# EAGLE library part LM61440*-Q1 (library LM61440)
LM61440-Q1 Automotive 3V to 36V 4A Low EMI Synchronous Buck Technology Light Load Spread Spectrum AAN Auto No AAS Auto Yes AFS FPWM Yes
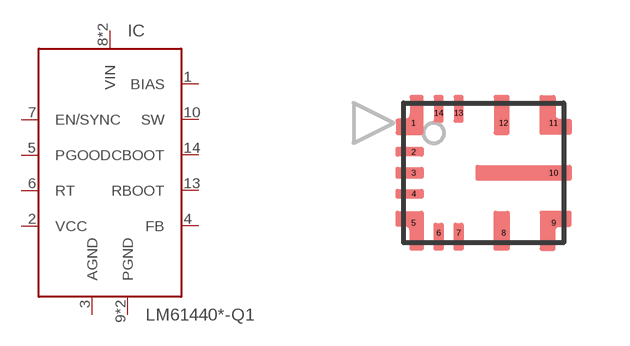
[diagram p0: symbol with the pads of VQFN-HR; footprint VQFN-HR]

Designator prefix IC

## LM61440AAN-Q1 (MF: Texas Instruments; MPN: LM61440AANQRJRRQ1), LM61440AAS-Q1 (MF: Texas Instruments; MPN: LM61440AASQRJRRQ1), LM61440AFS-Q1 (MF: Texas Instruments; MPN: LM61440AFSQRJRRQ1)  [VQFN-HR]
1  BIAS
2  VCC
3  AGND
4  FB
5  PGOOD
6  RT
7  EN/SYNC
8  VIN
9  PGND
10  SW
11  PGND
12  VIN
13  RBOOT
14  CBOOT

## Footprint VQFN-HR (pad centres in mm)
smd 0.2 x 0.2: 1 -1.75,1.25; 2 -1.75,0.525; 3 -1.75,0; 4 -1.75,-0.525; 5 -1.75,-1.25; 6 -1.125,-1.5; 7 -0.625,-1.5; 8 0.5,-1.5; 9 1.75,-1.25; 10 1.75,0; 11 1.75,1.25; 12 0.5,1.25; 13 -0.625,1.5; 14 -1.125,1.5